# Altium footprint library VBPW34SR.PcbLib: 1 footprints
Each footprint in its own frame and in the unit in brackets; x right, y up, seen from the top. Pads: shape width x height; smd on the part's side, far side on the other; paste and mask are expansions set on the pad; w line width, h text height; cw(c..) or ccw(c..) is an arc to the next point about the centre after c.
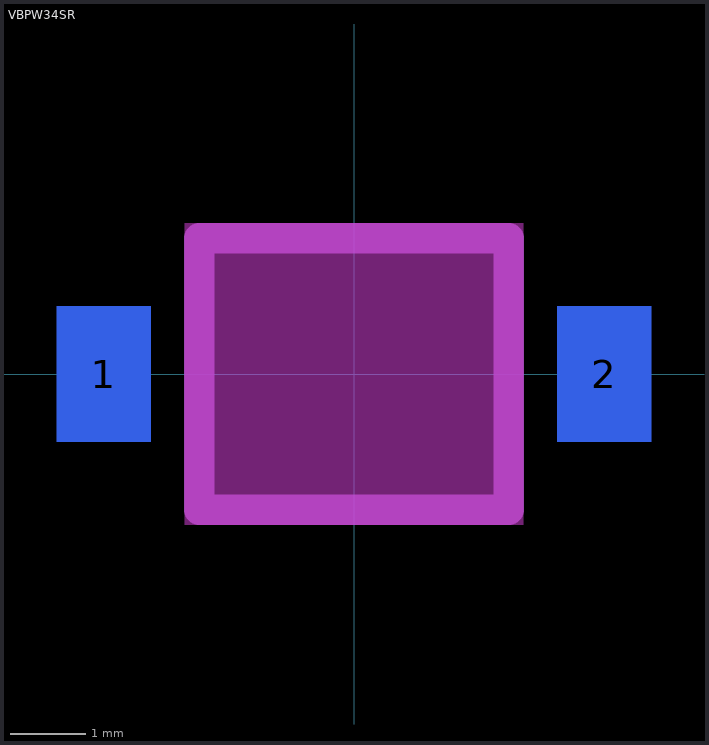
[diagram p0: the footprint, top view; thin cyan lines are the x and y axes]

## VBPW34SR [mm] "Silicon PIN photodiode for pay boards"
height 1.2
pads (2):
  rect 1.25x1.8 smd far side: 1(-3.325,0) 2(3.325,0)
Bottom Overlay:
  circle w0.254: c-2.845,1.321 r0.102
Keep-Out Layer:
  board cut-out: -2.25,2 2.25,2 2.25,-2 -2.25,-2
Mechanical 1:
  text "CUT OUT" at -1.626,-0.178 h0.5
Route Tool Path:
  lines w0.406: -2.057,-1.803 -2.057,1.803 2.057,1.803 2.057,-1.803 -2.057,-1.803